# Altium footprint library Smart Humidifier.PcbLib: 30 footprints (part 1 of 2)
Each footprint in its own frame and in the unit in brackets; x right, y up, seen from the top. Pads: shape width x height; smd on the part's side, far side on the other; paste and mask are expansions set on the pad; w line width, h text height; cw(c..) or ccw(c..) is an arc to the next point about the centre after c.
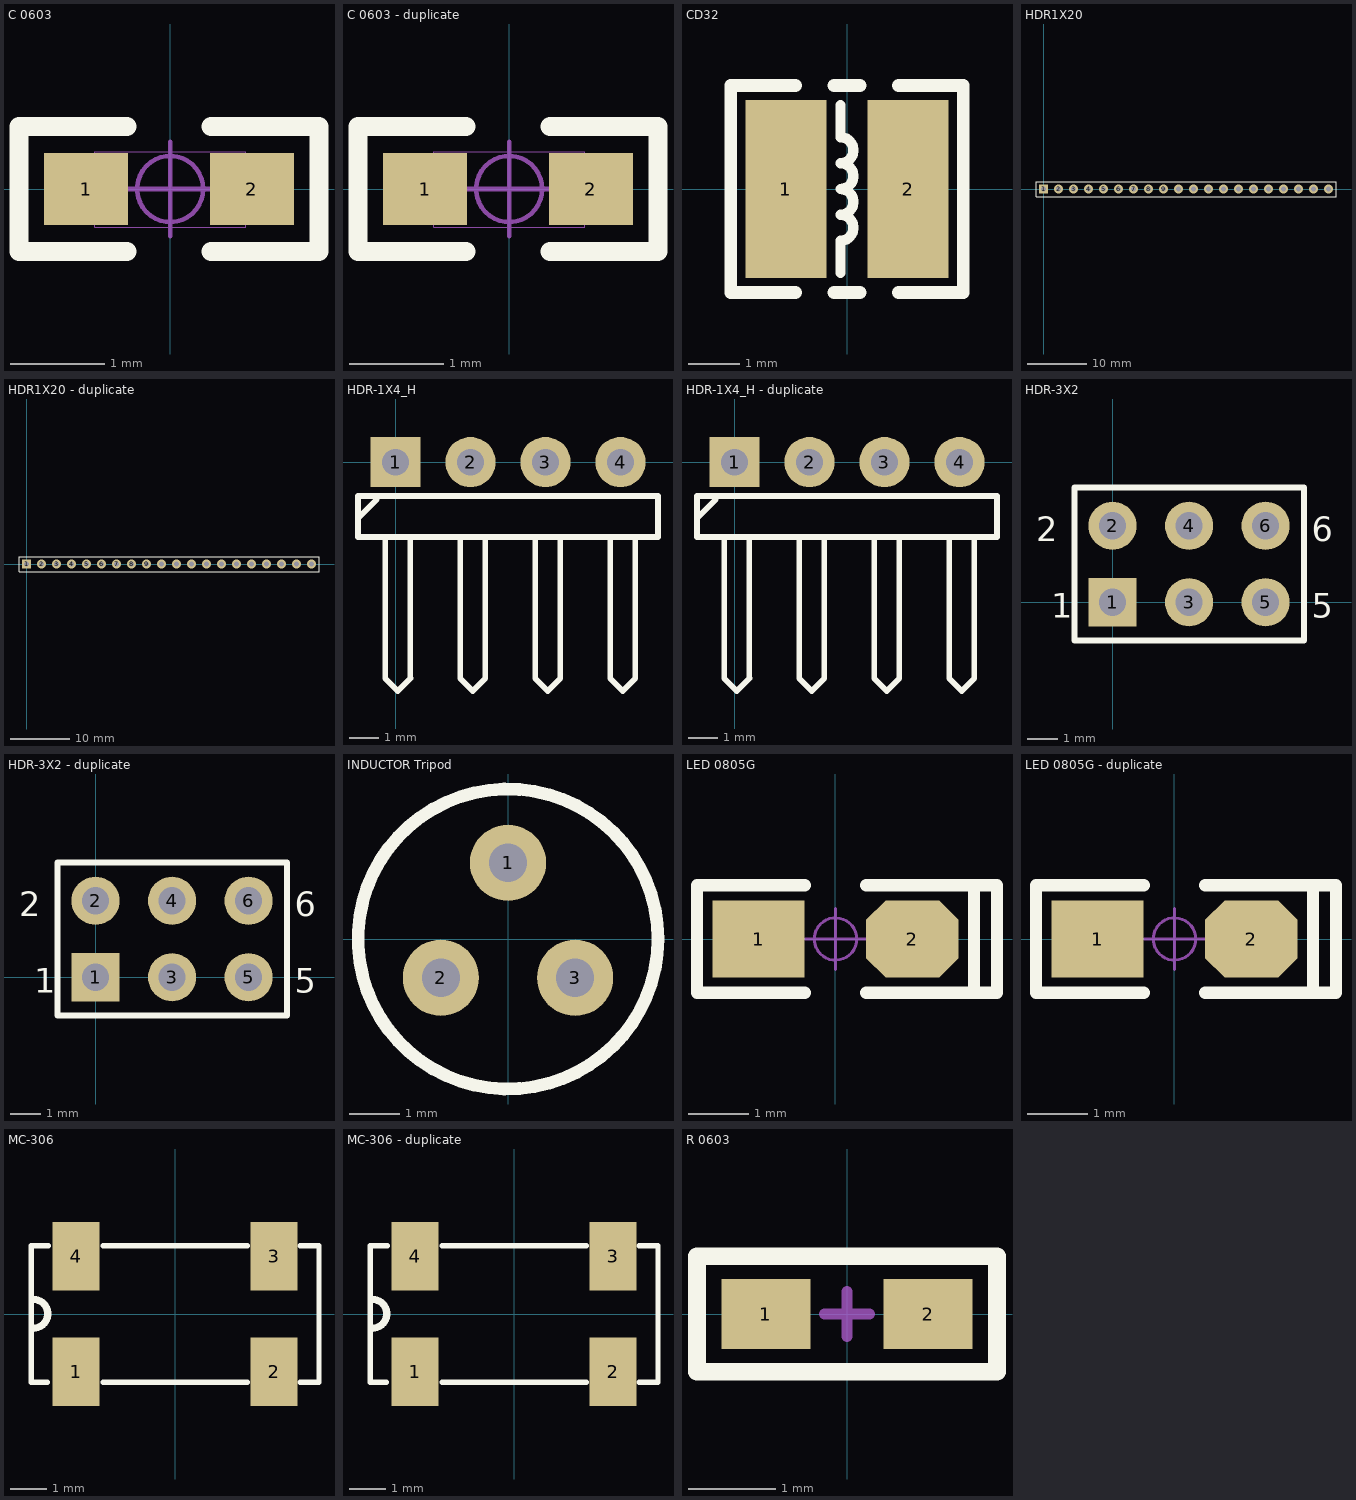
[diagram p0: the footprints below, top view; thin cyan lines are the x and y axes]

## C 0603 [mil] "无极性贴片电容"
pads (2):
  rect 35x30 smd: 1(-35,0) 2(34,0)
Top Overlay:
  lines w8: -18,-26 -63,-26 -63,26 -18,26 ; 17,-26 62,-26 62,26 17,26
Mechanical 13:
  lines w0.39: -31.5,-16 31.5,-16 31.5,15.5 -31.5,15.5 -31.5,-16
Mechanical 15:
  circle w1.97: c0,0 r13.78
  lines w1.97: -19.68,0 19.68,0 ; 0,-19.68 0,19.68
3D body "C 0603.STEP": height 31.89, standoff -0.39, extent -31.5,-16.14 31.5,16.14

## C 0603 - duplicate [mil]
pads (2):
  rect 35x30 smd: 1(-35,0) 2(34,0)
Top Overlay:
  lines w8: -18,-26 -63,-26 -63,26 -18,26 ; 17,-26 62,-26 62,26 17,26
Mechanical 13:
  lines w0.39: -31.5,-16 -31.5,15.5 31.5,15.5 31.5,-16 -31.5,-16
Mechanical 15:
  circle w1.97: c0,0 r13.78
  lines w1.97: -19.68,0 19.68,0 ; 0,-19.68 0,19.68
3D body "C 0603.STEP": height 31.89, standoff -0.39, extent -31.5,-16.14 31.5,16.14

## CD32 [mm] "3.5*3*2mm（长宽高）"
pads (2):
  rect 1.6x3.5 smd: 1(-1.2,0) 2(1.2,0)
Top Overlay:
  lines w0.203: -0.127,-1.651 -0.127,-1.016 ccw(c-0.127,-0.762) -0.127,-0.508 ccw(c-0.127,-0.254) -0.127,0 ccw(c-0.127,0.254) -0.127,0.508 ccw(c-0.127,0.762) -0.127,1.016 -0.127,1.651
  lines w0.254: -1.016,-2.032 -2.286,-2.032 -2.286,2.032 -1.016,2.032 ; -0.254,-2.032 0.254,-2.032 ; -0.254,2.032 0.254,2.032 ; 1.016,-2.032 2.286,-2.032 2.286,2.032 1.016,2.032
3D body "CD32.STEP": height 2.15, standoff 0.05, extent -1.707,-1.397 1.707,1.603

## HDR1X20 [mm] "Connector; Header; 20 Position"
height 4.32
pads (20):
  rect 1.5x1.5 hole 0.9: 1(0,0)
  round 1.5 hole 0.9: 2(2.54,0) 3(5.08,0) 4(7.62,0) 5(10.16,0) 6(12.7,0) 7(15.24,0) 8(17.78,0) 9(20.32,0) 10(22.86,0) 11(25.4,0) 12(27.94,0) 13(30.48,0) 14(33.02,0) 15(35.56,0) 16(38.1,0) 17(40.64,0) 18(43.18,0) 19(45.72,0) 20(48.26,0)
Top Overlay:
  lines w0.2: -1.27,-1.27 -1.27,1.27 0.635,1.27 49.53,1.27 49.53,-1.27 -1.27,-1.27

## HDR1X20 - duplicate [mm]
pads (20):
  rect 1.5x1.5 hole 0.9: 1(0,0)
  round 1.5 hole 0.9: 2(2.54,0) 3(5.08,0) 4(7.62,0) 5(10.16,0) 6(12.7,0) 7(15.24,0) 8(17.78,0) 9(20.32,0) 10(22.86,0) 11(25.4,0) 12(27.94,0) 13(30.48,0) 14(33.02,0) 15(35.56,0) 16(38.1,0) 17(40.64,0) 18(43.18,0) 19(45.72,0) 20(48.26,0)
Top Overlay:
  lines w0.2: -1.27,-1.27 -1.27,1.27 0.635,1.27 49.53,1.27 49.53,-1.27 -1.27,-1.27

## HDR-1X4_H [mm] "弯脚排针，4脚"
pads (4):
  rect 1.7x1.7 hole 0.9: 1(0,0)
  round 1.7 hole 0.9: 2(2.54,0) 3(5.08,0) 4(7.62,0)
Top Overlay:
  lines w0.2: -1.27,-1.905 -0.635,-1.27 ; -0.348,-2.54 -0.348,-7.332 0.075,-7.755 0.499,-7.332 0.508,-7.323 ; 0.499,-7.323 0.499,-2.54 ; 2.192,-2.54 2.192,-7.332 2.615,-7.755 3.039,-7.332 ; 3.039,-7.323 3.039,-2.54 ; 4.732,-2.54 4.732,-7.332 5.155,-7.755 5.579,-7.332 ; 5.579,-7.323 5.579,-2.54 ; 7.272,-2.54 7.272,-7.332 7.695,-7.755 8.119,-7.332 ; 8.119,-7.323 8.119,-2.54 ; -1.27,-2.54 8.89,-2.54 8.89,-1.143 0.508,-1.143 -1.27,-1.143 -1.27,-2.54
3D body "HDR2.54-1P_H.STEP": height 4.85, standoff -3, extent 6.35,-7.77 8.89,1.27
3D body "HDR2.54-1P_H.STEP": height 4.85, standoff -3, extent 3.81,-7.77 6.35,1.27
3D body "HDR2.54-1P_H.STEP": height 4.85, standoff -3, extent 1.27,-7.77 3.81,1.27
3D body "HDR2.54-1P_H.STEP": height 4.85, standoff -3, extent -1.27,-7.77 1.27,1.27

## HDR-1X4_H - duplicate [mm]
pads (4):
  rect 1.7x1.7 hole 0.9: 1(0,0)
  round 1.7 hole 0.9: 2(2.54,0) 3(5.08,0) 4(7.62,0)
Top Overlay:
  lines w0.2: -1.27,-1.905 -0.635,-1.27 ; -0.348,-2.54 -0.348,-7.332 0.075,-7.755 0.499,-7.332 0.508,-7.323 ; 0.499,-7.323 0.499,-2.54 ; 2.192,-2.54 2.192,-7.332 2.615,-7.755 3.039,-7.332 ; 3.039,-7.323 3.039,-2.54 ; 4.732,-2.54 4.732,-7.332 5.155,-7.755 5.579,-7.332 ; 5.579,-7.323 5.579,-2.54 ; 7.272,-2.54 7.272,-7.332 7.695,-7.755 8.119,-7.332 ; 8.119,-7.323 8.119,-2.54 ; -1.27,-2.54 -1.27,-1.143 0.508,-1.143 8.89,-1.143 8.89,-2.54 -1.27,-2.54
3D body "HDR2.54-1P_H.STEP": height 4.85, standoff -3, extent -1.27,-7.77 1.27,1.27
3D body "HDR2.54-1P_H.STEP": height 4.85, standoff -3, extent 1.27,-7.77 3.81,1.27
3D body "HDR2.54-1P_H.STEP": height 4.85, standoff -3, extent 3.81,-7.77 6.35,1.27
3D body "HDR2.54-1P_H.STEP": height 4.85, standoff -3, extent 6.35,-7.77 8.89,1.27

## HDR-3X2 [mm] "双排排针，3x2脚"
pads (6):
  rect 1.6x1.6 hole 0.9: 1(0,0)
  round 1.6 hole 0.9: 2(0,2.54) 3(2.54,0) 4(2.54,2.54) 5(5.08,0) 6(5.08,2.54)
Top Overlay:
  lines w0.2: 1.482,-1.27 6.35,-1.27 ; 6.35,-1.27 -1.27,-1.27 -1.27,3.81 6.35,3.81 6.35,-1.27
  text "1" at -2.032,-0.508 h0.81
  text "2" at -2.54,2.032 h0.81
  text "5" at 6.604,-0.508 h0.81
  text "6" at 6.604,2.032 h0.81
3D body "HDR2.54-1x2P.STEP": height 8.5, standoff -3, extent 1.27,-1.27 3.81,3.81
3D body "HDR2.54-1x2P.STEP": height 8.5, standoff -3, extent -1.27,-1.27 1.27,3.81
3D body "HDR2.54-1x2P.STEP": height 8.5, standoff -3, extent 3.81,-1.27 6.35,3.81

## HDR-3X2 - duplicate [mm]
pads (6):
  rect 1.6x1.6 hole 0.9: 1(0,0)
  round 1.6 hole 0.9: 2(0,2.54) 3(2.54,0) 4(2.54,2.54) 5(5.08,0) 6(5.08,2.54)
Top Overlay:
  lines w0.2: 1.482,-1.27 6.35,-1.27 ; 6.35,-1.27 -1.27,-1.27 -1.27,3.81 6.35,3.81 6.35,-1.27
  text "1" at -2.032,-0.508 h0.81
  text "2" at -2.54,2.032 h0.81
  text "5" at 6.604,-0.508 h0.81
  text "6" at 6.604,2.032 h0.81
3D body "HDR2.54-1x2P.STEP": height 8.5, standoff -3, extent 1.27,-1.27 3.81,3.81
3D body "HDR2.54-1x2P.STEP": height 8.5, standoff -3, extent -1.27,-1.27 1.27,3.81
3D body "HDR2.54-1x2P.STEP": height 8.5, standoff -3, extent 3.81,-1.27 6.35,3.81

## INDUCTOR Tripod [mil]
pads (3):
  round 60 hole 30: 1(0,60) 2(-52.85,-30.51) 3(52.85,-30.51)
Top Overlay:
  circle w10: c0,0 r118.11
3D body: height 10, standoff 0, extent -115,30 -115,30

## LED 0805G [mil] "绿色0805LED"
pads (2):
  rect 60x50 smd: 1(-50,0)
  oct 60x50 smd: 2(50,0)
Top Overlay:
  lines w8: -20,-35 -90,-35 -90,35 -20,35 ; 20,-35 105,-35 105,35 20,35 ; 90,-35 90,35
Mechanical 15:
  circle w1.97: c0,0 r13.78
  lines w1.97: -19.68,0 19.68,0 ; 0,-19.68 0,19.68
3D body "LED 0805玻璃罩.STEP": height 31.69, standoff 12.01, extent -29.49,-24.65 29.49,24.65
3D body "LED 0805-G.STEP": height 26.33, standoff -0.16, extent -39.37,-24.65 39.37,24.65

## LED 0805G - duplicate [mil]
pads (2):
  rect 60x50 smd: 1(-50,0)
  oct 60x50 smd: 2(50,0)
Top Overlay:
  lines w8: -20,-35 -90,-35 -90,35 -20,35 ; 20,-35 105,-35 105,35 20,35 ; 90,-35 90,35
Mechanical 15:
  circle w1.97: c0,0 r13.78
  lines w1.97: -19.68,0 19.68,0 ; 0,-19.68 0,19.68
3D body "LED 0805-G.STEP": height 26.33, standoff -0.16, extent -39.37,-24.65 39.37,24.65
3D body "LED 0805玻璃罩.STEP": height 31.69, standoff 12.01, extent -29.49,-24.65 29.49,24.65

## MC-306 [mm]
height 1.6
pads (4):
  rect 1.3x1.9 smd: 1(-2.75,-1.6) 2(2.75,-1.6) 3(2.75,1.6) 4(-2.75,1.6)
Top Overlay:
  lines w0.152: -3.556,-1.9 -4,-1.9 -4,1.9 -3.531,1.9 ; -2,-1.9 2,-1.9 ; -2,1.9 2,1.9 ; 3.48,-1.9 4,-1.9 4,1.9 3.48,1.9
  lines w0.2: -3.937,-0.394 ccw(c-3.937,0.006) -3.937,0.406

## MC-306 - duplicate [mm]
pads (4):
  rect 1.3x1.9 smd: 1(-2.75,-1.6) 2(2.75,-1.6) 3(2.75,1.6) 4(-2.75,1.6)
Top Overlay:
  lines w0.152: -3.556,-1.9 -4,-1.9 -4,1.9 -3.531,1.9 ; -2,-1.9 2,-1.9 ; -2,1.9 2,1.9 ; 3.48,-1.9 4,-1.9 4,1.9 3.48,1.9
  lines w0.2: -3.937,-0.394 ccw(c-3.937,0.006) -3.937,0.406

## PCBComponent_1 [mm]

## R 0603 [mil] "1/10W贴片电阻"
pads (2):
  rect 40x31.5 smd: 1(-36.5,0) 2(36.5,0)
Top Overlay:
  lines w8: -67.5,-26 67.5,-26 67.5,26 -67.5,26 -67.5,-26
Mechanical 15:
  lines w5: -10,0 10,0 ; 0,-10 0,10
3D body "R 0603.STEP": height 15.79, standoff -0.13, extent -31.5,-15.75 31.5,15.75